# Altium schematic symbol library BAT.Schlib: 1 symbol
Pins are listed as number, name and electrical type; pins without a type are passive.

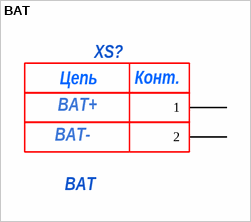
[diagram p0: symbol BAT]

## BAT
designator XS?
ManufacturerPartNumber: FC1-5211; manufacturer: *; Power/Voltage: *; Rem: *; TKE: *; Tolerance: *; Type: *; Value: *; Корпус: *; Примечание: *
footprint FC1-5211 (Батарейный отсек)
pins: 1, 2
text: Цепь; Конт.; BAT+; BAT-